# Altium footprint library buck3.PcbLib: 18 footprints (part 2 of 2)
Each footprint in its own frame and in the unit in brackets; x right, y up, seen from the top. Pads: shape width x height; smd on the part's side, far side on the other; paste and mask are expansions set on the pad; w line width, h text height; cw(c..) or ccw(c..) is an arc to the next point about the centre after c.
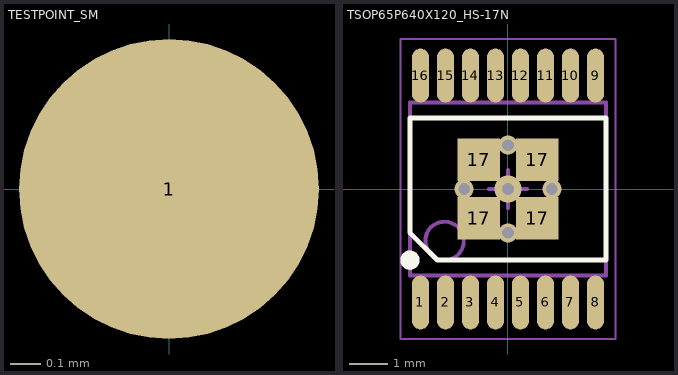
[diagram p1: the footprints below, top view; thin cyan lines are the x and y axes]

## TESTPOINT_SM [mm] "Small testpoint"
pads (1):
  round 1 smd paste-20 mask+0: 1(0,0)

## TSOP65P640X120_HS-17N [mm]
pads (20):
  oval 0.45x1.4 smd: 1(-2.275,-2.95) 2(-1.625,-2.95) 3(-0.975,-2.95) 4(-0.325,-2.95) 5(0.325,-2.95) 6(0.975,-2.95) 7(1.625,-2.95) 8(2.275,-2.95) 9(2.275,2.95) 10(1.625,2.95) 11(0.975,2.95) 12(0.325,2.95) 13(-0.325,2.95) 14(-0.975,2.95) 15(-1.625,2.95) 16(-2.275,2.95)
  rrect1% 1.1x1.1 smd paste+0 mask+0: 17(-0.762,-0.762) 17(-0.762,0.762) 17(0.762,-0.762) 17(0.762,0.762)
via 0,1.143 diameter 0.5 hole 0.3
via -1.143,0 diameter 0.5 hole 0.3
via 0,0 diameter 0.7 hole 0.3
via 1.143,0 diameter 0.5 hole 0.3
via 0,-1.143 diameter 0.5 hole 0.3
Top Overlay:
  circle w0.25: c-2.55,-1.85 r0.125
  lines w0.127: -2.55,-1.133 -2.55,1.85 2.55,1.85 2.55,-1.85 -1.833,-1.85 -2.55,-1.133
Mechanical 13:
  circle w0.1: c-1.65,-1.35 r0.5
  lines w0.1: -2.55,-2.25 2.55,-2.25 2.55,2.25 -2.55,2.25 -2.55,-2.25
Mechanical 15:
  lines w0.05: -2.8,-3.9 2.8,-3.9 2.8,3.9 -2.8,3.9 -2.8,-3.9
  lines w0.1: -0.5,0 0.5,0 ; 0,-0.5 0,0.5
3D body "TSOP65P640X120_HS-17N.step": height 1.2, standoff 0, extent -2.55,-3.2 2.55,3.2